# Altium integrated library NSC Audio.IntLib: 304 symbols (part 2 of 8)
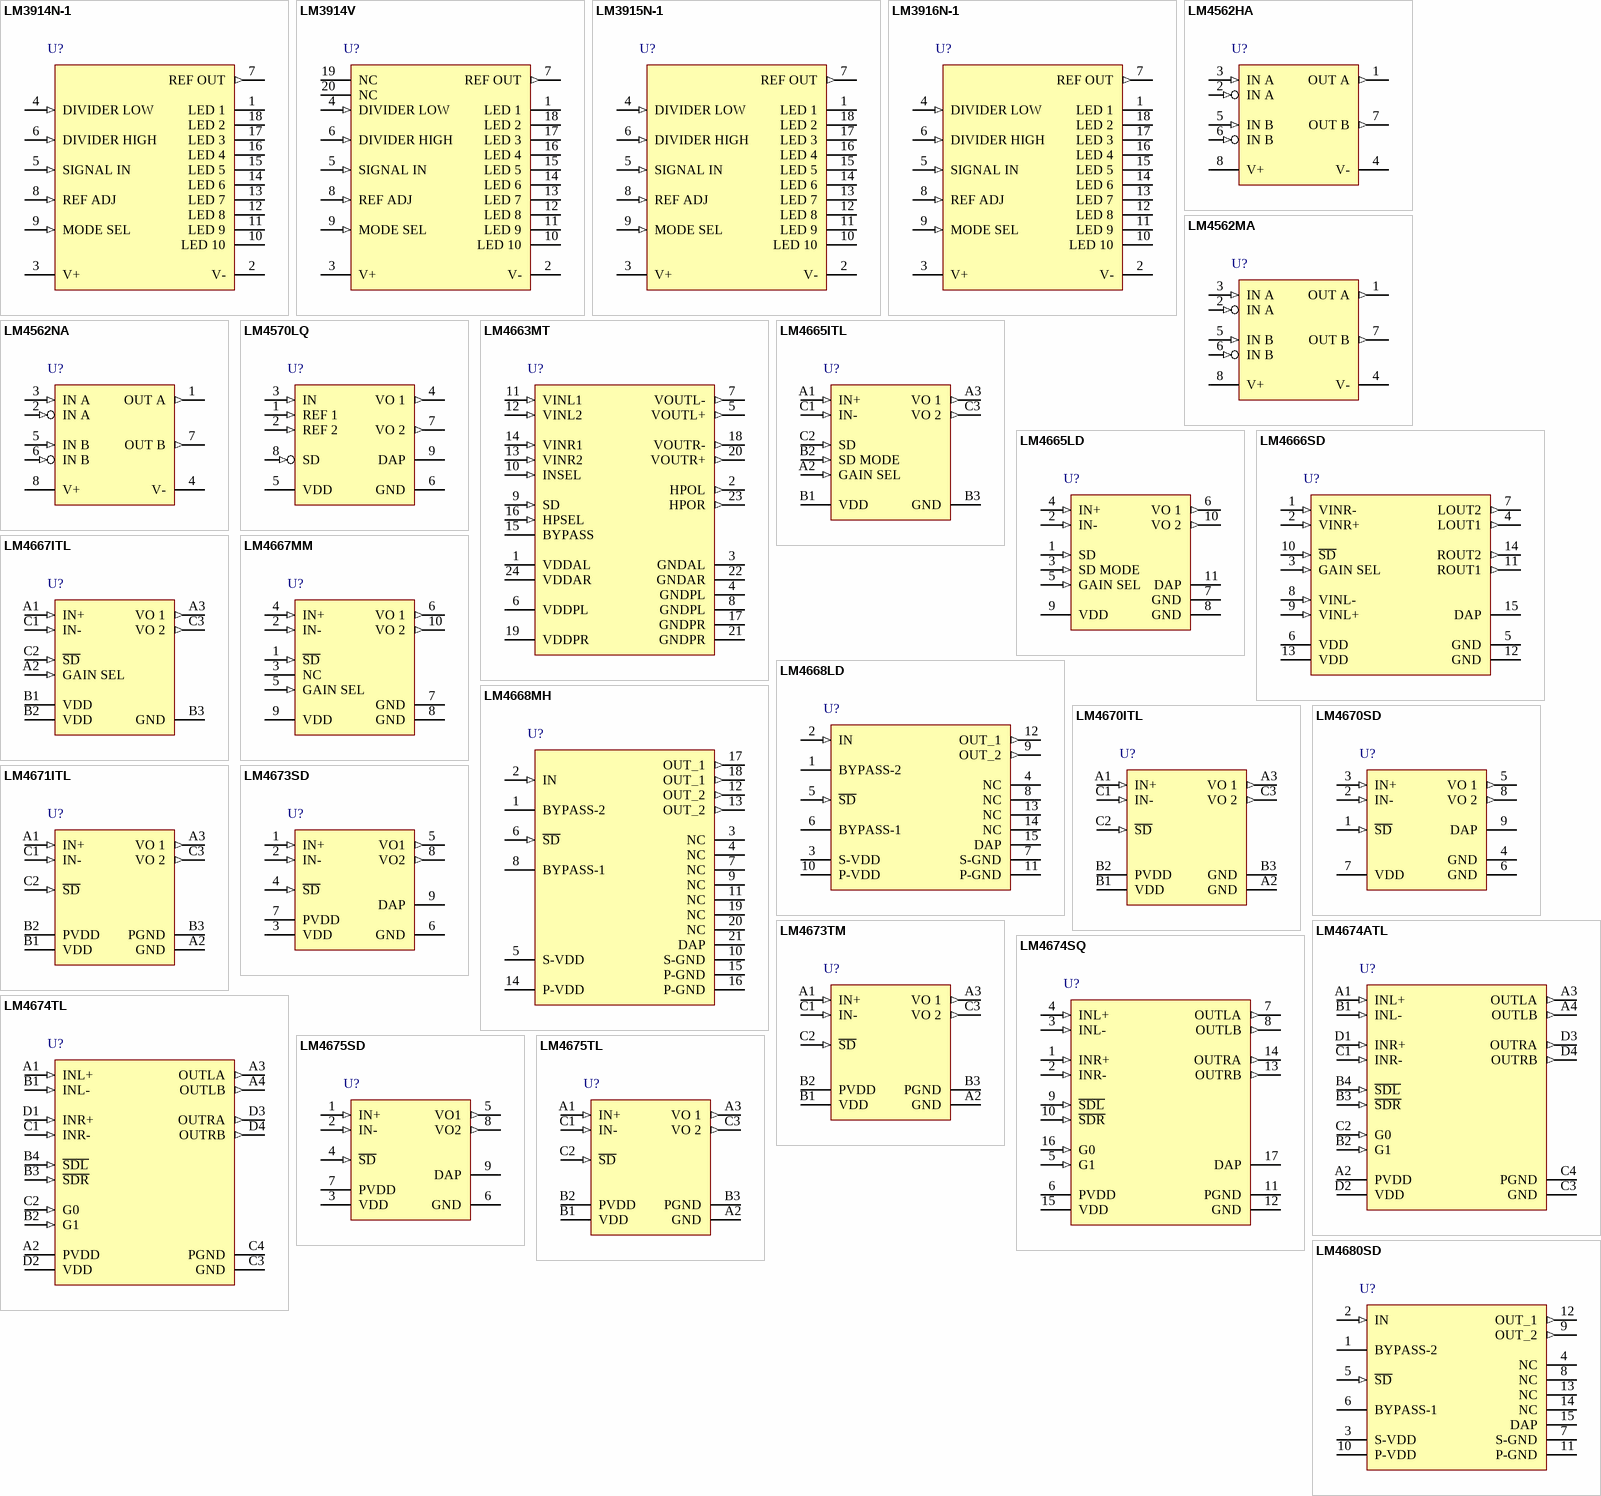
[diagram p13: symbols LM3914N-1 to LM4680SD]

## LM4667ITL
designator U?
Filterless High Efficiency 1.3W Switching Audio Amplifier; PartNumber: LM4667ITL; Manufacturer: National Semiconductor; CompType: Audio IC; PackageTopMarking: XVG*I B4; PowerWise: N; Published: 4-Dec-2008; DatasheetVersion: Sep-2004; PackageVersion: revC, Jan-2004; PackageReference: TLA09AAA; Publisher: Altium Limited; PackageDescription: Thin Micro SMD, 9 Bump (Large), 0.5mm Pitch; RoHS: O; PinCount: 9; DigiKeyPartNumber: LM4667ITLCT-ND; Code_JEDEC: MO-211-DD; ComponentLink1Description: LM4667 Datasheet; ComponentLink1URL: http://www.national.com/ds/LM/LM4667.pdf; ComponentLink2Description: LM4667 Web Page; ComponentLink2URL: http://www.national.com/pf/LM/LM4667.html; ComponentLink3Description: TLA09AAA Package Page; ComponentLink3URL: http://www.national.com/packaging/folders/tla09aaa.html
footprint TLA09AAA (Micro SMD, 9-Leads, Body 1.52x1.52mm, Pitch 0.5mm, NSC Recommended)
pins: A1 IN+ (in), A2 GAIN SEL (in), A3 VO 1 (out), B1 VDD (power), B2 VDD (power), B3 GND (power), C1 IN- (in), C2 ~{SD} (in), C3 VO 2 (out)

## LM4667MM
designator U?
Filterless High Efficiency 1.3W Switching Audio Amplifier; PartNumber: LM4667MM; Manufacturer: National Semiconductor; CompType: Audio IC; PackageTopMarking: ZXTT*GA6; PowerWise: N; Published: 4-Dec-2008; DatasheetVersion: Sep-2004; PackageVersion: revB, Jul-2003; PackageReference: MUB10A; Publisher: Altium Limited; PackageDescription: Mini-SO, Molded, .118 x .118 x .034in Body, 10 Lead, .0197in Pitch; RoHS: O; PinCount: 10; DigiKeyPartNumber: LM4667MMCT-ND; Code_JEDEC: MO-187-BA; ComponentLink1Description: LM4667 Datasheet; ComponentLink1URL: http://www.national.com/ds/LM/LM4667.pdf; ComponentLink2Description: LM4667 Web Page; ComponentLink2URL: http://www.national.com/pf/LM/LM4667.html; ComponentLink3Description: MUB10A Package Page; ComponentLink3URL: http://www.national.com/packaging/folders/mub10a.html
footprint MUB10A_N (TSSOP, 10-Leads, Body 3x3mm, Pitch 0.5mm, IPC Medium Density)
footprint MUB10A_L (TSSOP, 10-Leads, Body 3x3mm, Pitch 0.5mm, IPC High Density)
footprint MUB10A_M (TSSOP, 10-Leads, Body 3x3mm, Pitch 0.5mm, IPC Low Density)
pins: 1 ~{SD} (in), 2 IN- (in), 3 NC, 4 IN+ (in), 5 GAIN SEL (in), 6 VO 1 (out), 7 GND (power), 8 GND (power), 9 VDD (power), 10 VO 2 (out)

## LM4668LD
designator U?
10W High-Efficiency Mono BTL Audio Power Amplifier; PartNumber: LM4668LD; Manufacturer: National Semiconductor; CompType: Audio IC; PackageTopMarking: NS*UZXYTT*L4668LD; PowerWise: N; Published: 4-Dec-2008; DatasheetVersion: Oct-2004; PackageVersion: revA, Dec-2000; PackageReference: LDC14A; Publisher: Altium Limited; PackageDescription: Power LLP, Plastic, Dual, 6 x 5 x 1.0mm Body, 14 Lead, 0.8mm Pitch; RoHS: Y; PinCount: 14; DigiKeyPartNumber: LM4668LDCT-ND; ComponentLink1Description: LM4668 Datasheet; ComponentLink1URL: http://www.national.com/ds/LM/LM4668.pdf; ComponentLink2Description: LM4668 Web Page; ComponentLink2URL: http://www.national.com/pf/LM/LM4668.html; ComponentLink3Description: LDC14A Package Page; ComponentLink3URL: http://www.national.com/packaging/folders/ldc14a.html
footprint LDC14A (PSON, 14-Leads, Body 6x5mm, Pitch 0.8mm, NSC Recommended)
pins: 1 BYPASS-2, 2 IN (in), 3 S-VDD (power), 4 NC, 5 ~{SD} (in), 6 BYPASS-1, 7 S-GND (power), 8 NC, 9 OUT_2 (out), 10 P-VDD (power), 11 P-GND (power), 12 OUT_1 (out), 13 NC, 14 NC, 15 DAP (power)

## LM4668MH
designator U?
10W High-Efficiency Mono BTL Audio Power Amplifier; PartNumber: LM4668MH; Manufacturer: National Semiconductor; CompType: Audio IC; PackageTopMarking: NSUZXYTT*LM4668*MH; PowerWise: N; Published: 4-Dec-2008; DatasheetVersion: Oct-2004; PackageVersion: revC, Jul-2006; PackageReference: MXA20A; Publisher: Altium Limited; PackageDescription: Molded TSSOP, Jedec, 6.5 x 4.4 x 0.9mm Body, 20 Lead, 0.65mm Pitch, Exposed Pad; RoHS: Y; PinCount: 20; DigiKeyPartNumber: LM4668MH-ND; Code_JEDEC: MO-153-ACT; ComponentLink1Description: LM4668 Datasheet; ComponentLink1URL: http://www.national.com/ds/LM/LM4668.pdf; ComponentLink2Description: LM4668 Web Page; ComponentLink2URL: http://www.national.com/pf/LM/LM4668.html; ComponentLink3Description: MXA20A Package Page; ComponentLink3URL: http://www.national.com/packaging/folders/mxa20a.html
footprint MXA20A_N (TSOP, 20-Leads, Body 6.5x4.4mm, Pitch 0.65mm, Exposed Pad, IPC Medium Density)
footprint MXA20A_L (TSOP, 20-Leads, Body 6.5x4.4mm, Pitch 0.65mm, Exposed Pad, IPC High Density)
footprint MXA20A_M (TSOP, 20-Leads, Body 6.5x4.4mm, Pitch 0.65mm, Exposed Pad, IPC Low Density)
pins: 1 BYPASS-2, 2 IN (in), 3 NC, 4 NC, 5 S-VDD (power), 6 ~{SD} (in), 7 NC, 8 BYPASS-1, 9 NC, 10 S-GND (power), 11 NC, 12 OUT_2 (out), 13 OUT_2 (out), 14 P-VDD (power), 15 P-GND (power), 16 P-GND (power), 17 OUT_1 (out), 18 OUT_1 (out), 19 NC, 20 NC, 21 DAP (power)

## LM4670ITL
designator U?
Filterless High Efficiency 3W Switching Audio Amplifier; PartNumber: LM4670ITL; Manufacturer: National Semiconductor; CompType: Audio IC; PackageTopMarking: XVG*I E6; PowerWise: N; Published: 4-Dec-2008; DatasheetVersion: Jul-2006; PackageVersion: revC, Jan-2004; PackageReference: TLA09ZZA; Publisher: Altium Limited; PackageDescription: Thin Micro SMD, 9 Bump (Large), 0.5mm Pitch; RoHS: Y; PinCount: 9; DigiKeyPartNumber: LM4670ITL-ND; Code_JEDEC: MO-211-DD; ComponentLink1Description: LM4670 Datasheet; ComponentLink1URL: http://www.national.com/ds/LM/LM4670.pdf; ComponentLink2Description: LM4670 Web Page; ComponentLink2URL: http://www.national.com/pf/LM/LM4670.html; ComponentLink3Description: TLA09ZZA Package Page; ComponentLink3URL: http://www.national.com/packaging/folders/tla09zza.html
footprint TLA09ZZA (Micro SMD, 9-Leads, Body 1.47x1.47mm, Pitch 0.5mm, NSC Recommended)
pins: A1 IN+ (in), A2 GND (power), A3 VO 1 (out), B1 VDD (power), B2 PVDD (power), B3 GND (power), C1 IN- (in), C2 ~{SD} (in), C3 VO 2 (out)

## LM4670SD
designator U?
Filterless High Efficiency 3W Switching Audio Amplifier; PartNumber: LM4670SD; Manufacturer: National Semiconductor; CompType: Audio IC; PackageTopMarking: ZXYTT*L4670; PowerWise: N; Published: 4-Dec-2008; DatasheetVersion: Jul-2006; PackageVersion: revA, Aug-2003; PackageReference: SDA08A; Publisher: Altium Limited; PackageDescription: LLP, Plastic, Dual, 3 x 3 x 0.8mm Body, 8 Lead, 0.5mm Pitch, No Pullback; RoHS: Y; PinCount: 8; DigiKeyPartNumber: LM4670SD-ND; ComponentLink1Description: LM4670 Datasheet; ComponentLink1URL: http://www.national.com/ds/LM/LM4670.pdf; ComponentLink2Description: LM4670 Web Page; ComponentLink2URL: http://www.national.com/pf/LM/LM4670.html; ComponentLink3Description: SDA08A Package Page; ComponentLink3URL: http://www.national.com/packaging/folders/sda08a.html
footprint SDA08A (SON, 8-Leads, Body 3x3mm, Pitch 0.5mm, NSC Recommended)
pins: 1 ~{SD} (in), 2 IN- (in), 3 IN+ (in), 4 GND (power), 5 VO 1 (out), 6 GND (power), 7 VDD (power), 8 VO 2 (out), 9 DAP (power)

## LM4671ITL
designator U?
Filterless High Efficiency 2.5W Switching Audio Amplifier; PartNumber: LM4671ITL; Manufacturer: National Semiconductor; CompType: Audio IC; PackageTopMarking: XVG*I E7; PowerWise: N; Published: 4-Dec-2008; DatasheetVersion: Mar-2008; PackageVersion: revC, Jan-2004; PackageReference: TLA09AAA; Publisher: Altium Limited; PackageDescription: Thin Micro SMD, 9 Bump (Large), 0.5mm Pitch; RoHS: Y; PinCount: 9; DigiKeyPartNumber: LM4671ITL-ND; Code_JEDEC: MO-211-DD; ComponentLink1Description: LM4671 Datasheet; ComponentLink1URL: http://www.national.com/ds/LM/LM4671.pdf; ComponentLink2Description: LM4671 Web Page; ComponentLink2URL: http://www.national.com/pf/LM/LM4671.html; ComponentLink3Description: TLA09AAA Package Page; ComponentLink3URL: http://www.national.com/packaging/folders/tla09aaa.html
footprint TLA09AAA (Micro SMD, 9-Leads, Body 1.52x1.52mm, Pitch 0.5mm, NSC Recommended)
pins: A1 IN+ (in), A2 GND (power), A3 VO 1 (out), B1 VDD (power), B2 PVDD (power), B3 PGND (power), C1 IN- (in), C2 ~{SD} (in), C3 VO 2 (out)

## LM4673SD
designator U?
Filterless, 2.65W, Mono, Class D Audio Power Amplifier; PartNumber: LM4673SD; Manufacturer: National Semiconductor; CompType: Audio IC; PackageTopMarking: ZXYTT*L4673; PowerWise: Y; Published: 4-Dec-2008; DatasheetVersion: Nov-2007; PackageVersion: revA, Aug-2003; PackageReference: SDA08A; Publisher: Altium Limited; PackageDescription: LLP, Plastic, Dual, 3 x 3 x 0.8mm Body, 8 Lead, 0.5mm Pitch, No Pullback; RoHS: Y; PinCount: 8; DigiKeyPartNumber: LM4673SDCT-ND; ComponentLink1Description: LM4673 Datasheet; ComponentLink1URL: http://www.national.com/ds/LM/LM4673.pdf; ComponentLink2Description: LM4673 Web Page; ComponentLink2URL: http://www.national.com/pf/LM/LM4673.html; ComponentLink3Description: SDA08A Package Page; ComponentLink3URL: http://www.national.com/packaging/folders/sda08a.html
footprint SDA08A (SON, 8-Leads, Body 3x3mm, Pitch 0.5mm, NSC Recommended)
pins: 1 IN+ (in), 2 IN- (in), 3 VDD (power), 4 ~{SD} (in), 5 VO1 (out), 6 GND (power), 7 PVDD (power), 8 VO2 (out), 9 DAP (power)

## LM4673TM
designator U?
Filterless, 2.65W, Mono, Class D Audio Power Amplifier; PartNumber: LM4673TM; Manufacturer: National Semiconductor; CompType: Audio IC; PackageTopMarking: XVG*I G4; PowerWise: Y; Published: 4-Dec-2008; DatasheetVersion: Nov-2007; PackageVersion: revA, May-2005; PackageReference: TMD09GGA; Publisher: Altium Limited; PackageDescription: Thin Micro SMD, 9 Bump, 0.4mm Pitch; RoHS: Y; PinCount: 9; DigiKeyPartNumber: LM4673TMCT-ND; ComponentLink1Description: LM4673 Datasheet; ComponentLink1URL: http://www.national.com/ds/LM/LM4673.pdf; ComponentLink2Description: LM4673 Web Page; ComponentLink2URL: http://www.national.com/pf/LM/LM4673.html; ComponentLink3Description: TMD09GGA Package Page; ComponentLink3URL: http://www.national.com/packaging/folders/tmd09gga.html
footprint TMD09GGA (Micro SMD, 9-Leads, Body 1.37x1.37mm, Pitch 0.4mm, NSC Recommended)
pins: A1 IN+ (in), A2 GND (power), A3 VO 1 (out), B1 VDD (power), B2 PVDD (power), B3 PGND (power), C1 IN- (in), C2 ~{SD} (in), C3 VO 2 (out)

## LM4674ATL
designator U?
Filterless 2.5 Stereo Class D Audio Power Amplifier; PartNumber: LM4674ATL; Manufacturer: National Semiconductor; CompType: Audio IC; PackageTopMarking: XYTT*I GI2; PowerWise: Y; Published: 4-Dec-2008; DatasheetVersion: Sep-2006; PackageVersion: revC, Jan-2004; PackageReference: TLA1611A; Publisher: Altium Limited; PackageDescription: Thin Micro SMD, 16 Bump (Large), 0.5mm Pitch; RoHS: Y; PinCount: 16; DigiKeyPartNumber: LM4674ATLCT-ND; Code_JEDEC: MO-211-DF; ComponentLink1Description: LM4674A Datasheet; ComponentLink1URL: http://www.national.com/ds/LM/LM4674A.pdf; ComponentLink2Description: LM4674A Web Page; ComponentLink2URL: http://www.national.com/pf/LM/LM4674A.html; ComponentLink3Description: TLA1611A Package Page; ComponentLink3URL: http://www.national.com/packaging/folders/tla1611a.html
footprint TLA1611A (Micro SMD, 16-Leads, Body 1.97x1.97mm, Pitch 0.5mm, NSC Recommended)
pins: A1 INL+ (in), A2 PVDD (power), A3 OUTLA (out), A4 OUTLB (out), B1 INL- (in), B2 G1 (in), B3 ~{SDR} (in), B4 ~{SDL} (in), C1 INR- (in), C2 G0 (in), C3 GND (power), C4 PGND (power), D1 INR+ (in), D2 VDD (power), D3 OUTRA (out), D4 OUTRB (out)

## LM4674SQ
designator U?
Filterless 2.5 Stereo Class D Audio Power Amplifier; PartNumber: LM4674SQ; Manufacturer: National Semiconductor; CompType: Audio IC; PackageTopMarking: NS*UZXYTT*L4674SQ; PowerWise: N; Published: 4-Dec-2008; DatasheetVersion: Jul-2008; PackageVersion: revA, Oct-2003; PackageReference: SQA16A; Publisher: Altium Limited; PackageDescription: LLP, Plastic, Quad, 4 x 4 x 0.8mm Body, 16 Lead, 0.5mm Pitch, No Pullback; RoHS: Y; PinCount: 16; DigiKeyPartNumber: LM4674SQCT-ND; ComponentLink1Description: LM4674 Datasheet; ComponentLink1URL: http://www.national.com/ds/LM/LM4674.pdf; ComponentLink2Description: LM4674 Web Page; ComponentLink2URL: http://www.national.com/pf/LM/LM4674.html; ComponentLink3Description: SQA16A Package Page; ComponentLink3URL: http://www.national.com/packaging/folders/sqa16a.html
footprint SQA16A (QFN, 16-Leads, Body 4x4mm, Pitch 0.5mm, NSC Recommended)
pins: 1 INR+ (in), 2 INR- (in), 3 INL- (in), 4 INL+ (in), 5 G1 (in), 6 PVDD (power), 7 OUTLA (out), 8 OUTLB (out), 9 ~{SDL} (in), 10 ~{SDR} (in), 11 PGND (power), 12 GND (power), 13 OUTRB (out), 14 OUTRA (out), 15 VDD (power), 16 G0 (in), 17 DAP (power)

## LM4674TL
designator U?
Filterless 2.5 Stereo Class D Audio Power Amplifier; PartNumber: LM4674TL; Manufacturer: National Semiconductor; CompType: Audio IC; PackageTopMarking: XYTT*I GG2; PowerWise: N; Published: 4-Dec-2008; DatasheetVersion: Jul-2008; PackageVersion: revC, Jan-2004; PackageReference: TLA1611A; Publisher: Altium Limited; PackageDescription: Thin Micro SMD, 16 Bump (Large), 0.5mm Pitch; RoHS: Y; PinCount: 16; DigiKeyPartNumber: LM4674TLCT-ND; Code_JEDEC: MO-211-DF; ComponentLink1Description: LM4674 Datasheet; ComponentLink1URL: http://www.national.com/ds/LM/LM4674.pdf; ComponentLink2Description: LM4674 Web Page; ComponentLink2URL: http://www.national.com/pf/LM/LM4674.html; ComponentLink3Description: TLA1611A Package Page; ComponentLink3URL: http://www.national.com/packaging/folders/tla1611a.html
footprint TLA1611A (Micro SMD, 16-Leads, Body 1.97x1.97mm, Pitch 0.5mm, NSC Recommended)
pins: A1 INL+ (in), A2 PVDD (power), A3 OUTLA (out), A4 OUTLB (out), B1 INL- (in), B2 G1 (in), B3 ~{SDR} (in), B4 ~{SDL} (in), C1 INR- (in), C2 G0 (in), C3 GND (power), C4 PGND (power), D1 INR+ (in), D2 VDD (power), D3 OUTRA (out), D4 OUTRB (out)

## LM4675SD
designator U?
Ultra-Low EMI, Filterless, 2.65W, Mono, Class D Audio Power Amplifier with Spread Spectrum; PartNumber: LM4675SD; Manufacturer: National Semiconductor; CompType: Audio IC; PackageTopMarking: ZXYTT*L4675; PowerWise: N; Published: 4-Dec-2008; DatasheetVersion: Jul-2008; PackageVersion: revA, Aug-2003; PackageReference: SDA08A; Publisher: Altium Limited; PackageDescription: LLP, Plastic, Dual, 3 x 3 x 0.8mm Body, 8 Lead, 0.5mm Pitch, No Pullback; RoHS: Y; PinCount: 8; DigiKeyPartNumber: LM4675SDCT-ND; ComponentLink1Description: LM4675 Datasheet; ComponentLink1URL: http://www.national.com/ds/LM/LM4675.pdf; ComponentLink2Description: LM4675 Web Page; ComponentLink2URL: http://www.national.com/pf/LM/LM4675.html; ComponentLink3Description: SDA08A Package Page; ComponentLink3URL: http://www.national.com/packaging/folders/sda08a.html
footprint SDA08A (SON, 8-Leads, Body 3x3mm, Pitch 0.5mm, NSC Recommended)
pins: 1 IN+ (in), 2 IN- (in), 3 VDD (power), 4 ~{SD} (in), 5 VO1 (out), 6 GND (power), 7 PVDD (power), 8 VO2 (out), 9 DAP (power)

## LM4675TL
designator U?
Ultra-Low EMI, Filterless, 2.65W, Mono, Class D Audio Power Amplifier with Spread Spectrum; PartNumber: LM4675TL; Manufacturer: National Semiconductor; CompType: Audio IC; PackageTopMarking: XVG*I H8; PowerWise: Y; Published: 4-Dec-2008; DatasheetVersion: Jul-2008; PackageVersion: revC, Jan-2004; PackageReference: TLA09AAA; Publisher: Altium Limited; PackageDescription: Thin Micro SMD, 9 Bump (Large), 0.5mm Pitch; RoHS: Y; PinCount: 9; DigiKeyPartNumber: LM4675TLCT-ND; Code_JEDEC: MO-211-DD; ComponentLink1Description: LM4675 Datasheet; ComponentLink1URL: http://www.national.com/ds/LM/LM4675.pdf; ComponentLink2Description: LM4675 Web Page; ComponentLink2URL: http://www.national.com/pf/LM/LM4675.html; ComponentLink3Description: TLA09AAA Package Page; ComponentLink3URL: http://www.national.com/packaging/folders/tla09aaa.html
footprint TLA09AAA (Micro SMD, 9-Leads, Body 1.52x1.52mm, Pitch 0.5mm, NSC Recommended)
pins: A1 IN+ (in), A2 GND (power), A3 VO 1 (out), B1 VDD (power), B2 PVDD (power), B3 PGND (power), C1 IN- (in), C2 ~{SD} (in), C3 VO 2 (out)

## LM4680SD
designator U?
10W High-Efficiency Mono BTL Audio Power Amplifier; PartNumber: LM4680SD; Manufacturer: National Semiconductor; CompType: Audio IC; PackageTopMarking: NS*UZXYTT*L4680SD; PowerWise: N; Published: 4-Dec-2008; DatasheetVersion: Jan-2005; PackageVersion: revA, Jul-2003; PackageReference: SRC14A; Publisher: Altium Limited; PackageDescription: LLP, Plastic, Dual, 6 x 5 x 1mm Body, 14 Lead, 0.8mm Pitch, No Pullback; RoHS: Y; PinCount: 14; DigiKeyPartNumber: LM4680SDCT-ND; ComponentLink1Description: LM4680 Datasheet; ComponentLink1URL: http://www.national.com/ds/LM/LM4680.pdf; ComponentLink2Description: LM4680 Web Page; ComponentLink2URL: http://www.national.com/pf/LM/LM4680.html; ComponentLink3Description: SRC14A Package Page; ComponentLink3URL: http://www.national.com/packaging/folders/src14a.html
footprint SRC14A (SON, 14-Leads, Body 6x5 mm, Pitch 0.8mm, NSC Recommended)
pins: 1 BYPASS-2, 2 IN (in), 3 S-VDD (power), 4 NC, 5 ~{SD} (in), 6 BYPASS-1, 7 S-GND (power), 8 NC, 9 OUT_2 (out), 10 P-VDD (power), 11 P-GND (power), 12 OUT_1 (out), 13 NC, 14 NC, 15 DAP (power)

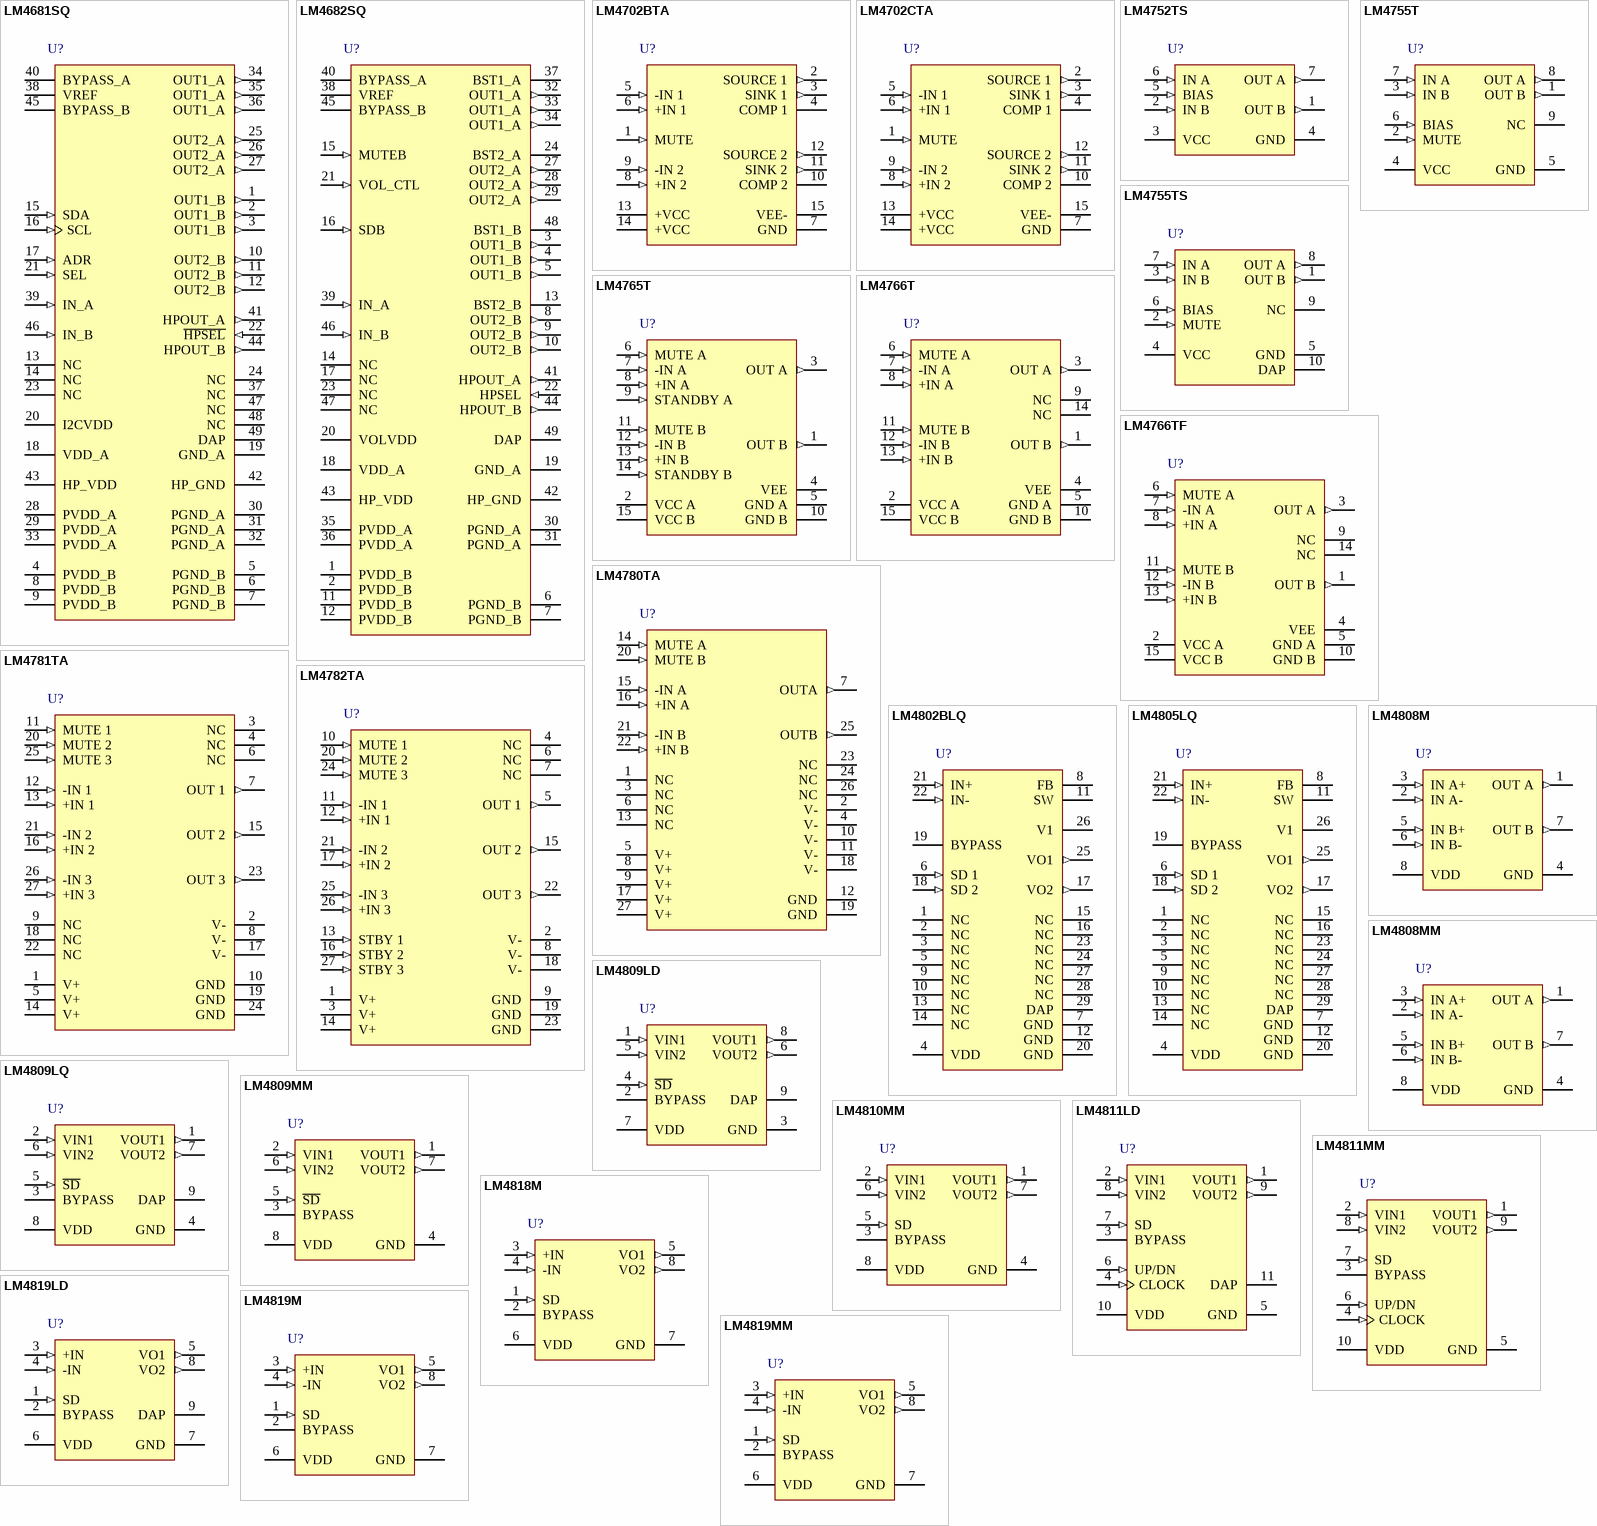
[diagram p2: symbols LM4681SQ to LM4819MM]

## LM4681SQ
designator U?
10 Watt Stereo CLASS D Audio Power Amplifier with Stereo Headphone Amplifier and I2C/SPI Volume Control; PartNumber: LM4681SQ; Manufacturer: National Semiconductor; CompType: Audio IC; PackageTopMarking: NS*UZXYTT*L4681SQ; PowerWise: N; Published: 4-Dec-2008; DatasheetVersion: Mar-2006; PackageVersion: revA, May-2003; PackageReference: SQA48A; Publisher: Altium Limited; PackageDescription: LLP, Plastic, Quad, 7 x 7 x 0.8mm Body, 48 Lead, 0.5mm Pitch, No Pullback; RoHS: Y; PinCount: 48; DigiKeyPartNumber: LM4681SQCT-ND; Code_JEDEC: MO-220-WKKD-2; ComponentLink1Description: LM4681 Datasheet; ComponentLink1URL: http://www.national.com/ds/LM/LM4681.pdf; ComponentLink2Description: LM4681 Web Page; ComponentLink2URL: http://www.national.com/pf/LM/LM4681.html; ComponentLink3Description: SQA48A Package Page; ComponentLink3URL: http://www.national.com/packaging/folders/sqa48a.html
footprint SQA48A (QFN, 48-Leads, Body 7x7mm, Pitch 0.5mm, NSC Recommended)
pins: 1 OUT1_B (out), 2 OUT1_B (out), 3 OUT1_B (out), 4 PVDD_B (power), 5 PGND_B (power), 6 PGND_B (power), 7 PGND_B (power), 8 PVDD_B (power), 9 PVDD_B (power), 10 OUT2_B (out), 11 OUT2_B (out), 12 OUT2_B (out), 13 NC, 14 NC, 15 SDA (in), 16 SCL (in), 17 ADR (in), 18 VDD_A (power), 19 GND_A (power), 20 I2CVDD (power), 21 SEL (in), 22 ~{HPSEL} (in), 23 NC, 24 NC, 25 OUT2_A (out), 26 OUT2_A (out), 27 OUT2_A (out), 28 PVDD_A (power), 29 PVDD_A (power), 30 PGND_A (power), 31 PGND_A (power), 32 PGND_A (power), 33 PVDD_A (power), 34 OUT1_A (out), 35 OUT1_A (out), 36 OUT1_A (out), 37 NC, 38 VREF, 39 IN_A (in), 40 BYPASS_A, 41 HPOUT_A (out), 42 HP_GND (power), 43 HP_VDD (power), 44 HPOUT_B (out), 45 BYPASS_B, 46 IN_B (in), 47 NC, 48 NC, 49 DAP (power)

## LM4682SQ
designator U?
10 Watt Stereo CLASS D Audio Power Amplifier with Stereo Headphone Amplifier and DC Volume Control; PartNumber: LM4682SQ; Manufacturer: National Semiconductor; CompType: Audio IC; PackageTopMarking: NS*UZXYTT*L4682SQ; PowerWise: N; Published: 4-Dec-2008; DatasheetVersion: Apr-2008; PackageVersion: revA, May-2003; PackageReference: SQA48A; Publisher: Altium Limited; PackageDescription: LLP, Plastic, Quad, 7 x 7 x 0.8mm Body, 48 Lead, 0.5mm Pitch, No Pullback; RoHS: Y; PinCount: 48; DigiKeyPartNumber: LM4682SQCT-ND; Code_JEDEC: MO-220-WKKD-2; ComponentLink1Description: LM4682 Datasheet; ComponentLink1URL: http://www.national.com/ds/LM/LM4682.pdf; ComponentLink2Description: LM4682 Web Page; ComponentLink2URL: http://www.national.com/pf/LM/LM4682.html; ComponentLink3Description: SQA48A Package Page; ComponentLink3URL: http://www.national.com/packaging/folders/sqa48a.html
footprint SQA48A (QFN, 48-Leads, Body 7x7mm, Pitch 0.5mm, NSC Recommended)
pins: 1 PVDD_B (power), 2 PVDD_B (power), 3 OUT1_B (out), 4 OUT1_B (out), 5 OUT1_B (out), 6 PGND_B (power), 7 PGND_B (power), 8 OUT2_B (out), 9 OUT2_B (out), 10 OUT2_B (out), 11 PVDD_B (power), 12 PVDD_B (power), 13 BST2_B, 14 NC, 15 MUTEB (in), 16 SDB (in), 17 NC, 18 VDD_A (power), 19 GND_A (power), 20 VOLVDD (power), 21 VOL_CTL (in), 22 HPSEL (in), 23 NC, 24 BST2_A, 27 OUT2_A (out), 28 OUT2_A (out), 29 OUT2_A (out), 30 PGND_A (power), 31 PGND_A (power), 32 OUT1_A (out), 33 OUT1_A (out), 34 OUT1_A (out), 35 PVDD_A (power), 36 PVDD_A (power), 37 BST1_A, 38 VREF, 39 IN_A (in), 40 BYPASS_A, 41 HPOUT_A (out), 42 HP_GND (power), 43 HP_VDD (power), 44 HPOUT_B (out), 45 BYPASS_B, 46 IN_B (in), 47 NC, 48 BST1_B, 49 DAP (power)

## LM4702BTA
designator U?
Stereo High Fidelity 200 Volt Driver with Mute; PartNumber: LM4702BTA; Manufacturer: National Semiconductor; CompType: Audio IC; PackageTopMarking: NSUZXYTTE#*LM4702BTA; PowerWise: N; Published: 4-Dec-2008; DatasheetVersion: Sep-2006; PackageVersion: revA, Nov-1985; PackageReference: TA15A; Publisher: Altium Limited; PackageDescription: TO-220, Molded, .788 x .421in Body, 15 Lead, .05in Pitch; RoHS: Y; PinCount: 15; DigiKeyPartNumber: LM4702BTA-ND; ComponentLink1Description: LM4702 Datasheet; ComponentLink1URL: http://www.national.com/ds/LM/LM4702.pdf; ComponentLink2Description: LM4702 Web Page; ComponentLink2URL: http://www.national.com/pf/LM/LM4702.html; ComponentLink3Description: TA15A Package Page; ComponentLink3URL: http://www.national.com/packaging/folders/ta15a.html
footprint TA15A (TO, Thru-Hole, Vertical, Heatsink Mounted; 15 Bent Staggered Leads; Pitch 1.27 mm)
pins: 1 MUTE (in), 2 SOURCE 1 (out), 3 SINK 1 (out), 4 COMP 1, 5 -IN 1 (in), 6 +IN 1 (in), 7 GND (power), 8 +IN 2 (in), 9 -IN 2 (in), 10 COMP 2, 11 SINK 2 (out), 12 SOURCE 2 (out), 13 +VCC (power), 14 +VCC (power), 15 VEE- (power)

## LM4702CTA
designator U?
Stereo High Fidelity 200 Volt Driver with Mute; PartNumber: LM4702CTA; Manufacturer: National Semiconductor; CompType: Audio IC; PackageTopMarking: NSUZXYTTE#*LM4702CTA; PowerWise: N; Published: 4-Dec-2008; DatasheetVersion: Sep-2006; PackageVersion: revA, Nov-1985; PackageReference: TA15A; Publisher: Altium Limited; PackageDescription: TO-220, Molded, .788 x .421in Body, 15 Lead, .05in Pitch; RoHS: Y; PinCount: 15; DigiKeyPartNumber: LM4702CTA-ND; ComponentLink1Description: LM4702 Datasheet; ComponentLink1URL: http://www.national.com/ds/LM/LM4702.pdf; ComponentLink2Description: LM4702 Web Page; ComponentLink2URL: http://www.national.com/pf/LM/LM4702.html; ComponentLink3Description: TA15A Package Page; ComponentLink3URL: http://www.national.com/packaging/folders/ta15a.html
footprint TA15A (TO, Thru-Hole, Vertical, Heatsink Mounted; 15 Bent Staggered Leads; Pitch 1.27 mm)
pins: 1 MUTE (in), 2 SOURCE 1 (out), 3 SINK 1 (out), 4 COMP 1, 5 -IN 1 (in), 6 +IN 1 (in), 7 GND (power), 8 +IN 2 (in), 9 -IN 2 (in), 10 COMP 2, 11 SINK 2 (out), 12 SOURCE 2 (out), 13 +VCC (power), 14 +VCC (power), 15 VEE- (power)

## LM4752TS
designator U?
Stereo 11W Audio Power Amplifier; PartNumber: LM4752TS; Manufacturer: National Semiconductor; CompType: Audio IC; PackageTopMarking: NSUZXYTTE#*LM4752TS; PowerWise: N; Published: 4-Dec-2008; DatasheetVersion: May-2008; PackageVersion: revE, Jul-2003; PackageReference: TS7B; Publisher: Altium Limited; PackageDescription: TO-263, Molded, .400 x .390 x .180in Body, 7 Lead, .050in Pitch, Surface Mount; RoHS: O; PinCount: 7; DigiKeyPartNumber: LM4752TS-ND; Code_JEDEC: MO-169-AC; ComponentLink1Description: LM4752 Datasheet; ComponentLink1URL: http://www.national.com/ds/LM/LM4752.pdf; ComponentLink2Description: LM4752 Web Page; ComponentLink2URL: http://www.national.com/pf/LM/LM4752.html; ComponentLink3Description: TS7B Package Page; ComponentLink3URL: http://www.national.com/packaging/folders/ts7b.html
footprint TS7B_N (D2-PAK, 8-Leads, Body 8.6x10.2mm, Pitch 1.27mm, Lead Span 14.1mm, IPC Medium Density)
footprint TS7B_L (D2-PAK, 8-Leads, Body 8.6x10.2mm, Pitch 1.27mm, Lead Span 14.1mm, IPC High Density)
footprint TS7B_M (D2-PAK, 8-Leads, Body 8.6x10.2mm, Pitch 1.27mm, Lead Span 14.1mm, IPC Low Density)
pins: 1 OUT B (out), 2 IN B (in), 3 VCC (power), 4 GND (power), 5 BIAS (in), 6 IN A (in), 7 OUT A (out)

## LM4755T
designator U?
Stereo 11W Audio Power Amplifier with Mute; PartNumber: LM4755T; Manufacturer: National Semiconductor; CompType: Audio IC; PackageTopMarking: NSUZXYTTE#*LM4755T; PowerWise: N; Published: 29-May-2009; DatasheetVersion: May-2008; PackageVersion: revC, Jul-1999; PackageReference: TA09A; Publisher: Altium Limited; PackageDescription: TO-220, Molded, 9 Lead, Staggered; RoHS: Y; PinCount: 9; DigiKeyPartNumber: LM4755T-ND; ComponentLink1Description: LM4755 Datasheet; ComponentLink1URL: http://www.national.com/ds/LM/LM4755.pdf; ComponentLink2Description: LM4755 Web Page; ComponentLink2URL: http://www.national.com/pf/LM/LM4755.html; ComponentLink3Description: TA09A Package Page; ComponentLink3URL: http://www.national.com/packaging/folders/ta09a.html
footprint TA09A (TO, Thru-Hole, Vertical, Heatsink Mounted; 9 Bent Staggered Leads; Pitch 0.97 mm)
pins: 1 OUT B (out), 2 MUTE (in), 3 IN B (in), 4 VCC (power), 5 GND (power), 6 BIAS (in), 7 IN A (in), 8 OUT A (out), 9 NC

## LM4755TS
designator U?
Stereo 11W Audio Power Amplifier with Mute; PartNumber: LM4755TS; Manufacturer: National Semiconductor; CompType: Audio IC; PackageTopMarking: NSUZXYTTE#*LM4755TS; PowerWise: N; Published: 4-Dec-2008; DatasheetVersion: May-2008; PackageVersion: revB, Dec-2004; PackageReference: TS9A; Publisher: Altium Limited; PackageDescription: TO-263, Molded, 9 Lead, Surface Mount; RoHS: O; PinCount: 9; DigiKeyPartNumber: LM4755TS-ND; ComponentLink1Description: LM4755 Datasheet; ComponentLink1URL: http://www.national.com/ds/LM/LM4755.pdf; ComponentLink2Description: LM4755 Web Page; ComponentLink2URL: http://www.national.com/pf/LM/LM4755.html; ComponentLink3Description: TS9A Package Page; ComponentLink3URL: http://www.national.com/packaging/folders/ts9a.html
footprint TS9A_N (D2-PAK, 10-Leads, Body 8.7x10.2mm, Pitch 0.97mm, Lead Span 14.1mm, IPC Medium Density)
footprint TS9A_L (D2-PAK, 10-Leads, Body 8.7x10.2mm, Pitch 0.97mm, Lead Span 14.1mm, IPC High Density)
footprint TS9A_M (D2-PAK, 10-Leads, Body 8.7x10.2mm, Pitch 0.97mm, Lead Span 14.1mm, IPC Low Density)
pins: 1 OUT B (out), 2 MUTE (in), 3 IN B (in), 4 VCC (power), 5 GND (power), 6 BIAS (in), 7 IN A (in), 8 OUT A (out), 9 NC, 10 DAP (power)

## LM4765T
designator U?
Overture Audio Power Amplifier Series Dual 30-Watt Audio Power Amplifier with Mute and Standby Modes; PartNumber: LM4765T; Manufacturer: National Semiconductor; CompType: Audio IC; PackageTopMarking: NSUZXYTTE#*LM4765T; PowerWise: N; Published: 4-Dec-2008; DatasheetVersion: Aug-2000; PackageVersion: revA, Nov-1985; PackageReference: TA15A; Publisher: Altium Limited; PackageDescription: TO-220, Molded, .788 x .421in Body, 15 Lead, .05in Pitch; RoHS: O; PinCount: 15; DigiKeyPartNumber: LM4765T-ND; ComponentLink1Description: LM4765 Datasheet; ComponentLink1URL: http://www.national.com/ds/LM/LM4765.pdf; ComponentLink2Description: LM4765 Web Page; ComponentLink2URL: http://www.national.com/pf/LM/LM4765.html; ComponentLink3Description: TA15A Package Page; ComponentLink3URL: http://www.national.com/packaging/folders/ta15a.html
footprint TA15A (TO, Thru-Hole, Vertical, Heatsink Mounted; 15 Bent Staggered Leads; Pitch 1.27 mm)
pins: 1 OUT B (out), 2 VCC A (power), 3 OUT A (out), 4 VEE (power), 5 GND A (power), 6 MUTE A (in), 7 -IN A (in), 8 +IN A (in), 9 STANDBY A (in), 10 GND B (power), 11 MUTE B (in), 12 -IN B (in), 13 +IN B (in), 14 STANDBY B (in), 15 VCC B (power)

## LM4766T
designator U?
Overture Audio Power Amplifier Series Dual 40-Watt Audio Power Amplifier with Mute; PartNumber: LM4766T; Manufacturer: National Semiconductor; CompType: Audio IC; PackageTopMarking: NSUZXYTTE#*LM4766T; PowerWise: N; Published: 4-Dec-2008; DatasheetVersion: Mar-2006; PackageVersion: revA, Nov-1985; PackageReference: TA15A; Publisher: Altium Limited; PackageDescription: TO-220, Molded, .788 x .421in Body, 15 Lead, .05in Pitch; RoHS: O; PinCount: 15; DigiKeyPartNumber: LM4766T-ND; ComponentLink1Description: LM4766 Datasheet; ComponentLink1URL: http://www.national.com/ds/LM/LM4766.pdf; ComponentLink2Description: LM4766 Web Page; ComponentLink2URL: http://www.national.com/pf/LM/LM4766.html; ComponentLink3Description: TA15A Package Page; ComponentLink3URL: http://www.national.com/packaging/folders/ta15a.html
footprint TA15A (TO, Thru-Hole, Vertical, Heatsink Mounted; 15 Bent Staggered Leads; Pitch 1.27 mm)
pins: 1 OUT B (out), 2 VCC A (power), 3 OUT A (out), 4 VEE (power), 5 GND A (power), 6 MUTE A (in), 7 -IN A (in), 8 +IN A (in), 9 NC, 10 GND B (power), 11 MUTE B (in), 12 -IN B (in), 13 +IN B (in), 14 NC, 15 VCC B (power)

## LM4766TF
designator U?
Overture Audio Power Amplifier Series Dual 40-Watt Audio Power Amplifier with Mute; PartNumber: LM4766TF; Manufacturer: National Semiconductor; CompType: Audio IC; PackageTopMarking: NSUZXYTTE#*LM4766TF; PowerWise: N; Published: 4-Dec-2008; DatasheetVersion: Mar-2006; PackageVersion: revB, Feb-1994; PackageReference: TF15B; Publisher: Altium Limited; PackageDescription: TO-220, Molded, 15 Lead, Staggered, Isolated; RoHS: Y; PinCount: 15; DigiKeyPartNumber: LM4766TF-ND; ComponentLink1Description: LM4766 Datasheet; ComponentLink1URL: http://www.national.com/ds/LM/LM4766.pdf; ComponentLink2Description: LM4766 Web Page; ComponentLink2URL: http://www.national.com/pf/LM/LM4766.html; ComponentLink3Description: TF15B Package Page; ComponentLink3URL: http://www.national.com/packaging/folders/tf15b.html
footprint TF15B (TO, Thru-Hole, Vertical, Heatsink Mounted; 15 Bent Staggered Leads; Pitch 1.27 mm)
pins: 1 OUT B (out), 2 VCC A (power), 3 OUT A (out), 4 VEE (power), 5 GND A (power), 6 MUTE A (in), 7 -IN A (in), 8 +IN A (in), 9 NC, 10 GND B (power), 11 MUTE B (in), 12 -IN B (in), 13 +IN B (in), 14 NC, 15 VCC B (power)

## LM4780TA
designator U?
Overture Audio Power Amplifier Series Stereo 60W, Mono 120W Audio Power Amplifier with Mute; PartNumber: LM4780TA; Manufacturer: National Semiconductor; CompType: Audio IC; PackageTopMarking: NSUZXYTTE#*L4780TA; PowerWise: N; Published: 4-Dec-2008; DatasheetVersion: Jul-2003; PackageVersion: revB, Apr-2003; PackageReference: TA27A; Publisher: Altium Limited; PackageDescription: TO-220, Molded, 1.150 x .618 x .177in Body, 27 Lead, .040in Pitch; RoHS: Y; PinCount: 27; DigiKeyPartNumber: LM4780TA-ND; ComponentLink1Description: LM4780 Datasheet; ComponentLink1URL: http://www.national.com/ds/LM/LM4780.pdf; ComponentLink2Description: LM4780 Web Page; ComponentLink2URL: http://www.national.com/pf/LM/LM4780.html; ComponentLink3Description: TA27A Package Page; ComponentLink3URL: http://www.national.com/packaging/folders/ta27a.html
footprint TA27A (In-Line; 27 Zig-Zag Leads; Body 29.2 x 4.5mm; Pitch 1mm)
pins: 1 NC, 2 V- (power), 3 NC, 4 V- (power), 5 V+ (power), 6 NC, 7 OUTA (out), 8 V+ (power), 9 V+ (power), 10 V- (power), 11 V- (power), 12 GND (power), 13 NC, 14 MUTE A (in), 15 -IN A (in), 16 +IN A (in), 17 V+ (power), 18 V- (power), 19 GND (power), 20 MUTE B (in), 21 -IN B (in), 22 +IN B (in), 23 NC, 24 NC, 25 OUTB (out), 26 NC, 27 V+ (power)

## LM4781TA
designator U?
Overture Audio Power Amplifier Series 3 Channel 35W Audio Power Amplifier with Mute; PartNumber: LM4781TA; Manufacturer: National Semiconductor; CompType: Audio IC; PackageTopMarking: NSUZXYTTE#*L4781TA; PowerWise: N; Published: 4-Dec-2008; DatasheetVersion: Aug-2003; PackageVersion: revB, Apr-2003; PackageReference: TA27A; Publisher: Altium Limited; PackageDescription: TO-220, Molded, 1.150 x .618 x .177in Body, 27 Lead, .040in Pitch; RoHS: Y; PinCount: 27; DigiKeyPartNumber: LM4781TA-ND; ComponentLink1Description: LM4781 Datasheet; ComponentLink1URL: http://www.national.com/ds/LM/LM4781.pdf; ComponentLink2Description: LM4781 Web Page; ComponentLink2URL: http://www.national.com/pf/LM/LM4781.html; ComponentLink3Description: TA27A Package Page; ComponentLink3URL: http://www.national.com/packaging/folders/ta27a.html
footprint TA27A (In-Line; 27 Zig-Zag Leads; Body 29.2 x 4.5mm; Pitch 1mm)
pins: 1 V+ (power), 2 V- (power), 3 NC, 4 NC, 5 V+ (power), 6 NC, 7 OUT 1 (out), 8 V- (power), 9 NC, 10 GND (power), 11 MUTE 1 (in), 12 -IN 1 (in), 13 +IN 1 (in), 14 V+ (power), 15 OUT 2 (out), 16 +IN 2 (in), 17 V- (power), 18 NC, 19 GND (power), 20 MUTE 2 (in), 21 -IN 2 (in), 22 NC, 23 OUT 3 (out), 24 GND (power), 25 MUTE 3 (in), 26 -IN 3 (in), 27 +IN 3 (in)

## LM4782TA
designator U?
3 Channel 25W Audio Power Amplifier with Mute and Standby; PartNumber: LM4782TA; Manufacturer: National Semiconductor; CompType: Audio IC; PackageTopMarking: NSUZXYTTE#*LM4782TA; PowerWise: N; Published: 4-Dec-2008; DatasheetVersion: Mar-2006; PackageVersion: revB, Apr-2003; PackageReference: TA27A; Publisher: Altium Limited; PackageDescription: TO-220, Molded, 1.150 x .618 x .177in Body, 27 Lead, .040in Pitch; RoHS: Y; PinCount: 27; DigiKeyPartNumber: LM4782TA-ND; ComponentLink1Description: LM4782 Datasheet; ComponentLink1URL: http://www.national.com/ds/LM/LM4782.pdf; ComponentLink2Description: LM4782 Web Page; ComponentLink2URL: http://www.national.com/pf/LM/LM4782.html; ComponentLink3Description: TA27A Package Page; ComponentLink3URL: http://www.national.com/packaging/folders/ta27a.html
footprint TA27A (In-Line; 27 Zig-Zag Leads; Body 29.2 x 4.5mm; Pitch 1mm)
pins: 1 V+ (power), 2 V- (power), 3 V+ (power), 4 NC, 5 OUT 1 (out), 6 NC, 7 NC, 8 V- (power), 9 GND (power), 10 MUTE 1 (in), 11 -IN 1 (in), 12 +IN 1 (in), 13 STBY 1 (in), 14 V+ (power), 15 OUT 2 (out), 16 STBY 2 (in), 17 +IN 2 (in), 18 V- (power), 19 GND (power), 20 MUTE 2 (in), 21 -IN 2 (in), 22 OUT 3 (out), 23 GND (power), 24 MUTE 3 (in), 25 -IN 3 (in), 26 +IN 3 (in), 27 STBY 3 (in)

## LM4802BLQ
designator U?
Audio Power Amplifier with DC-DC converter to drive Ceramic Speakers; PartNumber: LM4802BLQ; Manufacturer: National Semiconductor; CompType: Audio IC; PackageTopMarking: NS*UZXYTT*4802BLQ; PowerWise: N; Published: 4-Dec-2008; DatasheetVersion: Mar-2005; PackageVersion: revB, Jul-2001; PackageReference: LQA28A; Publisher: Altium Limited; PackageDescription: LLP, Plastic, Quad, 5 x 5 x 0.75mm Body, 28 Lead, 0.5mm Pitch; RoHS: Y; PinCount: 28; DigiKeyPartNumber: LM4802BLQCT-ND; Code_JEDEC: MO-220-WHHD-1; ComponentLink1Description: LM4802B Datasheet; ComponentLink1URL: http://www.national.com/ds/LM/LM4802B.pdf; ComponentLink2Description: LM4802B Web Page; ComponentLink2URL: http://www.national.com/pf/LM/LM4802B.html; ComponentLink3Description: LQA28A Package Page; ComponentLink3URL: http://www.national.com/packaging/folders/lqa28a.html
footprint LQA28A (PQFN, 28-Leads, Body 5x5mm, Pitch 0.5mm, NSC Recommended)
pins: 1 NC, 2 NC, 3 NC, 4 VDD (power), 5 NC, 6 SD 1 (in), 7 GND (power), 8 FB, 9 NC, 10 NC, 11 SW, 12 GND (power), 13 NC, 14 NC, 15 NC, 16 NC, 17 VO2 (out), 18 SD 2 (in), 19 BYPASS, 20 GND (power), 21 IN+ (in), 22 IN- (in), 23 NC, 24 NC, 25 VO1 (out), 26 V1 (power), 27 NC, 28 NC, 29 DAP (power)

## LM4805LQ
designator U?
Low Voltage High Power Audio Power Amplifier; PartNumber: LM4805LQ; Manufacturer: National Semiconductor; CompType: Audio IC; PackageTopMarking: NS*UZXYTT*L4805LQ; PowerWise: N; Published: 4-Dec-2008; DatasheetVersion: Aug-2005; PackageVersion: revB, Jul-2001; PackageReference: LQA28A; Publisher: Altium Limited; PackageDescription: LLP, Plastic, Quad, 5 x 5 x 0.75mm Body, 28 Lead, 0.5mm Pitch; RoHS: Y; PinCount: 28; DigiKeyPartNumber: LM4805LQCT-ND; Code_JEDEC: MO-220-WHHD-1; ComponentLink1Description: LM4805 Datasheet; ComponentLink1URL: http://www.national.com/ds/LM/LM4805.pdf; ComponentLink2Description: LM4805 Web Page; ComponentLink2URL: http://www.national.com/pf/LM/LM4805.html; ComponentLink3Description: LQA28A Package Page; ComponentLink3URL: http://www.national.com/packaging/folders/lqa28a.html
footprint LQA28A (PQFN, 28-Leads, Body 5x5mm, Pitch 0.5mm, NSC Recommended)
pins: 1 NC, 2 NC, 3 NC, 4 VDD (power), 5 NC, 6 SD 1 (in), 7 GND (power), 8 FB, 9 NC, 10 NC, 11 SW, 12 GND (power), 13 NC, 14 NC, 15 NC, 16 NC, 17 VO2 (out), 18 SD 2 (in), 19 BYPASS, 20 GND (power), 21 IN+ (in), 22 IN- (in), 23 NC, 24 NC, 25 VO1 (out), 26 V1 (power), 27 NC, 28 NC, 29 DAP (power)

## LM4808M
designator U?
LM4808 Dual 105 mW Headphone Amplifier; PartNumber: LM4808M; Manufacturer: National Semiconductor; CompType: Audio IC; PackageTopMarking: NSZXTT*LM48*08M; PowerWise: N; Published: 4-Dec-2008; DatasheetVersion: Aug-2001; PackageVersion: revL, Sep-2006; PackageReference: M08A; Publisher: Altium Limited; PackageDescription: SOIC Narrow, 4.9 x 3.9 x 1.45mm, 8 Lead, 1.27mm Pitch; RoHS: Y; PinCount: 8; DigiKeyPartNumber: LM4808M-ND; Code_JEDEC: MS-012-AA; Code_IPC: SOIC127P600-8; ComponentLink1Description: LM4808 Datasheet; ComponentLink1URL: http://www.national.com/ds/LM/LM4808.pdf; ComponentLink2Description: LM4808 Web Page; ComponentLink2URL: http://www.national.com/pf/LM/LM4808.html; ComponentLink3Description: M08A Package Page; ComponentLink3URL: http://www.national.com/packaging/folders/m08a.html
footprint M08A_N (SOIC, 8-Leads, Body 4.9x3.9mm, Pitch 1.27mm, IPC Medium Density)
footprint M08A_L (SOIC, 8-Leads, Body 4.9x3.9mm, Pitch 1.27mm, IPC High Density)
footprint M08A_M (SOIC, 8-Leads, Body 4.9x3.9mm, Pitch 1.27mm, IPC Low Density)
pins: 1 OUT A (out), 2 IN A- (in), 3 IN A+ (in), 4 GND (power), 5 IN B+ (in), 6 IN B- (in), 7 OUT B (out), 8 VDD (power)

## LM4808MM
designator U?
LM4808 Dual 105 mW Headphone Amplifier; PartNumber: LM4808MM; Manufacturer: National Semiconductor; CompType: Audio IC; PackageTopMarking: ZXTT*G08; PowerWise: N; Published: 4-Dec-2008; DatasheetVersion: Aug-2001; PackageVersion: revF, Apr-2008; PackageReference: MUA08A; Publisher: Altium Limited; PackageDescription: MINI SOIC, .118 x .118 x .034in, 8 Lead, .0256in Pitch; RoHS: Y; PinCount: 8; DigiKeyPartNumber: LM4808MMCT-ND; Code_JEDEC: MO-187-AA; ComponentLink1Description: LM4808 Datasheet; ComponentLink1URL: http://www.national.com/ds/LM/LM4808.pdf; ComponentLink2Description: LM4808 Web Page; ComponentLink2URL: http://www.national.com/pf/LM/LM4808.html; ComponentLink3Description: MUA08A Package Page; ComponentLink3URL: http://www.national.com/packaging/folders/mua08a.html
footprint MUA08A_N (TSOP, 8-Leads, Body 3x3mm, Pitch 0.65mm, IPC Medium Density)
footprint MUA08A_L (TSOP, 8-Leads, Body 3x3mm, Pitch 0.65mm, IPC High Density)
footprint MUA08A_M (TSOP, 8-Leads, Body 3x3mm, Pitch 0.65mm, IPC Low Density)
pins: 1 OUT A (out), 2 IN A- (in), 3 IN A+ (in), 4 GND (power), 5 IN B+ (in), 6 IN B- (in), 7 OUT B (out), 8 VDD (power)

## LM4809LD
designator U?
LM4809 Dual 105mW Headphone Amplifier with Active-Low Shutdown Mode; PartNumber: LM4809LD; Manufacturer: National Semiconductor; CompType: Audio IC; PackageTopMarking: XYTT*G09; Published: 4-Dec-2008; DatasheetVersion: Apr-2004; PackageVersion: revB, Jun-2003; PackageReference: LDA08B; Publisher: Altium Limited; PackageDescription: LLP, Plastic, Dual, 2.5 x 2.5 x 0.75mm Body, 8 Lead, 0.5mm Pitch; RoHS: Y; PinCount: 8; DigiKeyPartNumber: LM4809LDCT-ND; Code_JEDEC: MO-229-WDDD-2; ComponentLink1Description: LM4809 Datasheet; ComponentLink1URL: http://www.national.com/ds/LM/LM4809.pdf; ComponentLink2Description: LM4809 Web Page; ComponentLink2URL: http://www.national.com/pf/LM/LM4809.html; ComponentLink3Description: LDA08B Package Page; ComponentLink3URL: http://www.national.com/packaging/folders/lda08b.html
footprint LDA08B (PSON, 8-Leads, Body 2.5x2.5mm, Pitch 0.5mm, NSC Recommended)
pins: 1 VIN1 (in), 2 BYPASS, 3 GND (power), 4 ~{SD} (in), 5 VIN2 (in), 6 VOUT2 (out), 7 VDD (power), 8 VOUT1 (out), 9 DAP (power)

## LM4809LQ
designator U?
LM4809 Dual 105mW Headphone Amplifier with Active-Low Shutdown Mode; PartNumber: LM4809LQ; Manufacturer: National Semiconductor; CompType: Audio IC; PackageTopMarking: XTT*GB3; PowerWise: N; Published: 4-Dec-2008; DatasheetVersion: Apr-2004; PackageVersion: revB, Nov-2002; PackageReference: LQB08A; Publisher: Altium Limited; PackageDescription: LLP, Plastic, Quad, 2 x 2 x 0.75mm Body, 8 Lead, 0.65mm Pitch; RoHS: Y; PinCount: 8; DigiKeyPartNumber: LM4809LQCT-ND; ComponentLink1Description: LM4809 Datasheet; ComponentLink1URL: http://www.national.com/ds/LM/LM4809.pdf; ComponentLink2Description: LM4809 Web Page; ComponentLink2URL: http://www.national.com/pf/LM/LM4809.html; ComponentLink3Description: LQB08A Package Page; ComponentLink3URL: http://www.national.com/packaging/folders/lqb08a.html
footprint LQB08A (PQFN, 8-Leads, Body 2x2mm, Pitch 0.65mm, NSC Recommended)
pins: 1 VOUT1 (out), 2 VIN1 (in), 3 BYPASS, 4 GND (power), 5 ~{SD} (in), 6 VIN2 (in), 7 VOUT2 (out), 8 VDD (power), 9 DAP (power)

## LM4809MM
designator U?
LM4809 Dual 105mW Headphone Amplifier with Active-Low Shutdown Mode; PartNumber: LM4809MM; Manufacturer: National Semiconductor; CompType: Audio IC; PackageTopMarking: ZXTT*G09; PowerWise: N; Published: 4-Dec-2008; DatasheetVersion: Apr-2004; PackageVersion: revF, Apr-2008; PackageReference: MUA08A; Publisher: Altium Limited; PackageDescription: MINI SOIC, .118 x .118 x .034in, 8 Lead, .0256in Pitch; RoHS: Y; PinCount: 8; DigiKeyPartNumber: LM4809MMCT-ND; Code_JEDEC: MO-187-AA; ComponentLink1Description: LM4809 Datasheet; ComponentLink1URL: http://www.national.com/ds/LM/LM4809.pdf; ComponentLink2Description: LM4809 Web Page; ComponentLink2URL: http://www.national.com/pf/LM/LM4809.html; ComponentLink3Description: MUA08A Package Page; ComponentLink3URL: http://www.national.com/packaging/folders/mua08a.html
footprint MUA08A_N (TSOP, 8-Leads, Body 3x3mm, Pitch 0.65mm, IPC Medium Density)
footprint MUA08A_L (TSOP, 8-Leads, Body 3x3mm, Pitch 0.65mm, IPC High Density)
footprint MUA08A_M (TSOP, 8-Leads, Body 3x3mm, Pitch 0.65mm, IPC Low Density)
pins: 1 VOUT1 (out), 2 VIN1 (in), 3 BYPASS, 4 GND (power), 5 ~{SD} (in), 6 VIN2 (in), 7 VOUT2 (out), 8 VDD (power)

## LM4810MM
designator U?
LM4810 Dual 105mW Headphone Amplifier with Active-High Shutdown Mode; PartNumber: LM4810MM; Manufacturer: National Semiconductor; CompType: Audio IC; PackageTopMarking: ZXTT*G10; PowerWise: N; Published: 4-Dec-2008; DatasheetVersion: Nov-2002; PackageVersion: revF, Apr-2008; PackageReference: MUA08A; Publisher: Altium Limited; PackageDescription: MINI SOIC, .118 x .118 x .034in, 8 Lead, .0256in Pitch; RoHS: Y; PinCount: 8; DigiKeyPartNumber: LM4810MMCT-ND; Code_JEDEC: MO-187-AA; ComponentLink1Description: LM4810 Datasheet; ComponentLink1URL: http://www.national.com/ds/LM/LM4810.pdf; ComponentLink2Description: LM4810 Web Page; ComponentLink2URL: http://www.national.com/pf/LM/LM4810.html; ComponentLink3Description: MUA08A Package Page; ComponentLink3URL: http://www.national.com/packaging/folders/mua08a.html
footprint MUA08A_N (TSOP, 8-Leads, Body 3x3mm, Pitch 0.65mm, IPC Medium Density)
footprint MUA08A_L (TSOP, 8-Leads, Body 3x3mm, Pitch 0.65mm, IPC High Density)
footprint MUA08A_M (TSOP, 8-Leads, Body 3x3mm, Pitch 0.65mm, IPC Low Density)
pins: 1 VOUT1 (out), 2 VIN1 (in), 3 BYPASS, 4 GND (power), 5 SD (in), 6 VIN2 (in), 7 VOUT2 (out), 8 VDD (power)

## LM4811LD
designator U?
LM4811 Dual 105mW Headphone Amplifier with Digital Volume Control and Shutdown Mode; PartNumber: LM4811LD; Manufacturer: National Semiconductor; CompType: Audio IC; PackageTopMarking: ZXYTT*G11; PowerWise: N; Published: 4-Dec-2008; DatasheetVersion: Apr-2006; PackageVersion: revB, Jan-2003; PackageReference: LDA10A; Publisher: Altium Limited; PackageDescription: LLP, Plastic, Dual, 3 x 3 x 0.75mm Body, 10 Lead, 0.5mm Pitch; RoHS: Y; PinCount: 10; DigiKeyPartNumber: LM4811LDCT-ND; ComponentLink1Description: LM4811 Datasheet; ComponentLink1URL: http://www.national.com/ds/LM/LM4811.pdf; ComponentLink2Description: LM4811 Web Page; ComponentLink2URL: http://www.national.com/pf/LM/LM4811.html; ComponentLink3Description: LDA10A Package Page; ComponentLink3URL: http://www.national.com/packaging/folders/lda10a.html
footprint LDA10A (PSON, 10-Leads, Body 3x3mm, Pitch 0.5mm, NSC Recommended)
pins: 1 VOUT1 (out), 2 VIN1 (in), 3 BYPASS, 4 CLOCK (in), 5 GND (power), 6 UP/DN (in), 7 SD (in), 8 VIN2 (in), 9 VOUT2 (out), 10 VDD (power), 11 DAP (power)

## LM4811MM
designator U?
LM4811 Dual 105mW Headphone Amplifier with Digital Volume Control and Shutdown Mode; PartNumber: LM4811MM; Manufacturer: National Semiconductor; CompType: Audio IC; PackageTopMarking: ZXTT*G11; PowerWise: N; Published: 4-Dec-2008; DatasheetVersion: Apr-2006; PackageVersion: revB, Jul-2003; PackageReference: MUB10A; Publisher: Altium Limited; PackageDescription: Mini-SO, Molded, .118 x .118 x .034in Body, 10 Lead, .0197in Pitch; RoHS: Y; PinCount: 10; DigiKeyPartNumber: LM4811MMCT-ND; Code_JEDEC: MO-187-BA; ComponentLink1Description: LM4811 Datasheet; ComponentLink1URL: http://www.national.com/ds/LM/LM4811.pdf; ComponentLink2Description: LM4811 Web Page; ComponentLink2URL: http://www.national.com/pf/LM/LM4811.html; ComponentLink3Description: MUB10A Package Page; ComponentLink3URL: http://www.national.com/packaging/folders/mub10a.html
footprint MUB10A_N (TSSOP, 10-Leads, Body 3x3mm, Pitch 0.5mm, IPC Medium Density)
footprint MUB10A_L (TSSOP, 10-Leads, Body 3x3mm, Pitch 0.5mm, IPC High Density)
footprint MUB10A_M (TSSOP, 10-Leads, Body 3x3mm, Pitch 0.5mm, IPC Low Density)
pins: 1 VOUT1 (out), 2 VIN1 (in), 3 BYPASS, 4 CLOCK (in), 5 GND (power), 6 UP/DN (in), 7 SD (in), 8 VIN2 (in), 9 VOUT2 (out), 10 VDD (power)

## LM4818M
designator U?
350mW Audio Power Amplifier with Shutdown Mode; PartNumber: LM4818M; Manufacturer: National Semiconductor; CompType: Audio IC; PackageTopMarking: NSZXTT*LM48*18M; Published: 4-Dec-2008; DatasheetVersion: Apr-2002; PackageVersion: revL, Sep-2006; PackageReference: M08A; Publisher: Altium Limited; PackageDescription: SOIC Narrow, 4.9 x 3.9 x 1.45mm, 8 Lead, 1.27mm Pitch; RoHS: Y; PinCount: 8; DigiKeyPartNumber: LM4818M-ND; Code_JEDEC: MS-012-AA; Code_IPC: SOIC127P600-8; ComponentLink1Description: LM4818 Datasheet; ComponentLink1URL: http://www.national.com/ds/LM/LM4818.pdf; ComponentLink2Description: LM4818 Web Page; ComponentLink2URL: http://www.national.com/pf/LM/LM4818.html; ComponentLink3Description: M08A Package Page; ComponentLink3URL: http://www.national.com/packaging/folders/m08a.html
footprint M08A_N (SOIC, 8-Leads, Body 4.9x3.9mm, Pitch 1.27mm, IPC Medium Density)
footprint M08A_L (SOIC, 8-Leads, Body 4.9x3.9mm, Pitch 1.27mm, IPC High Density)
footprint M08A_M (SOIC, 8-Leads, Body 4.9x3.9mm, Pitch 1.27mm, IPC Low Density)
pins: 1 SD (in), 2 BYPASS, 3 +IN (in), 4 -IN (in), 5 VO1 (out), 6 VDD (power), 7 GND (power), 8 VO2 (out)

## LM4819LD
designator U?
350mW Audio Power Amplifier with Shutdown Mode; PartNumber: LM4819LD; Manufacturer: National Semiconductor; CompType: Audio IC; PackageTopMarking: XYTT*G19; PowerWise: N; Published: 4-Dec-2008; DatasheetVersion: Apr-2002; PackageVersion: revB, Jun-2003; PackageReference: LDA08B; Publisher: Altium Limited; PackageDescription: LLP, Plastic, Dual, 2.5 x 2.5 x 0.75mm Body, 8 Lead, 0.5mm Pitch; RoHS: Y; PinCount: 8; DigiKeyPartNumber: LM4819LD-ND; Code_JEDEC: MO-229-WDDD-2; ComponentLink1Description: LM4819 Datasheet; ComponentLink1URL: http://www.national.com/ds/LM/LM4819.pdf; ComponentLink2Description: LM4819 Web Page; ComponentLink2URL: http://www.national.com/pf/LM/LM4819.html; ComponentLink3Description: LDA08B Package Page; ComponentLink3URL: http://www.national.com/packaging/folders/lda08b.html
footprint LDA08B (PSON, 8-Leads, Body 2.5x2.5mm, Pitch 0.5mm, NSC Recommended)
pins: 1 SD (in), 2 BYPASS, 3 +IN (in), 4 -IN (in), 5 VO1 (out), 6 VDD (power), 7 GND (power), 8 VO2 (out), 9 DAP (power)

## LM4819M
designator U?
350mW Audio Power Amplifier with Shutdown Mode; PartNumber: LM4819M; Manufacturer: National Semiconductor; CompType: Audio IC; PackageTopMarking: NSZXTT*LM48*19M; Published: 4-Dec-2008; DatasheetVersion: Apr-2002; PackageVersion: revL, Sep-2006; PackageReference: M08A; Publisher: Altium Limited; PackageDescription: SOIC Narrow, 4.9 x 3.9 x 1.45mm, 8 Lead, 1.27mm Pitch; RoHS: Y; PinCount: 8; DigiKeyPartNumber: LM4819M-ND; Code_JEDEC: MS-012-AA; Code_IPC: SOIC127P600-8; ComponentLink1Description: LM4819 Datasheet; ComponentLink1URL: http://www.national.com/ds/LM/LM4819.pdf; ComponentLink2Description: LM4819 Web Page; ComponentLink2URL: http://www.national.com/pf/LM/LM4819.html; ComponentLink3Description: M08A Package Page; ComponentLink3URL: http://www.national.com/packaging/folders/m08a.html
footprint M08A_N (SOIC, 8-Leads, Body 4.9x3.9mm, Pitch 1.27mm, IPC Medium Density)
footprint M08A_L (SOIC, 8-Leads, Body 4.9x3.9mm, Pitch 1.27mm, IPC High Density)
footprint M08A_M (SOIC, 8-Leads, Body 4.9x3.9mm, Pitch 1.27mm, IPC Low Density)
pins: 1 SD (in), 2 BYPASS, 3 +IN (in), 4 -IN (in), 5 VO1 (out), 6 VDD (power), 7 GND (power), 8 VO2 (out)

## LM4819MM
designator U?
350mW Audio Power Amplifier with Shutdown Mode; PartNumber: LM4819MM; Manufacturer: National Semiconductor; CompType: Audio IC; PackageTopMarking: ZXTT*G19; PowerWise: N; Published: 4-Dec-2008; DatasheetVersion: Apr-2002; PackageVersion: revF, Apr-2008; PackageReference: MUA08A; Publisher: Altium Limited; PackageDescription: MINI SOIC, .118 x .118 x .034in, 8 Lead, .0256in Pitch; RoHS: Y; PinCount: 8; DigiKeyPartNumber: LM4819MM-ND; Code_JEDEC: MO-187-AA; ComponentLink1Description: LM4819 Datasheet; ComponentLink1URL: http://www.national.com/ds/LM/LM4819.pdf; ComponentLink2Description: LM4819 Web Page; ComponentLink2URL: http://www.national.com/pf/LM/LM4819.html; ComponentLink3Description: MUA08A Package Page; ComponentLink3URL: http://www.national.com/packaging/folders/mua08a.html
footprint MUA08A_N (TSOP, 8-Leads, Body 3x3mm, Pitch 0.65mm, IPC Medium Density)
footprint MUA08A_L (TSOP, 8-Leads, Body 3x3mm, Pitch 0.65mm, IPC High Density)
footprint MUA08A_M (TSOP, 8-Leads, Body 3x3mm, Pitch 0.65mm, IPC Low Density)
pins: 1 SD (in), 2 BYPASS, 3 +IN (in), 4 -IN (in), 5 VO1 (out), 6 VDD (power), 7 GND (power), 8 VO2 (out)

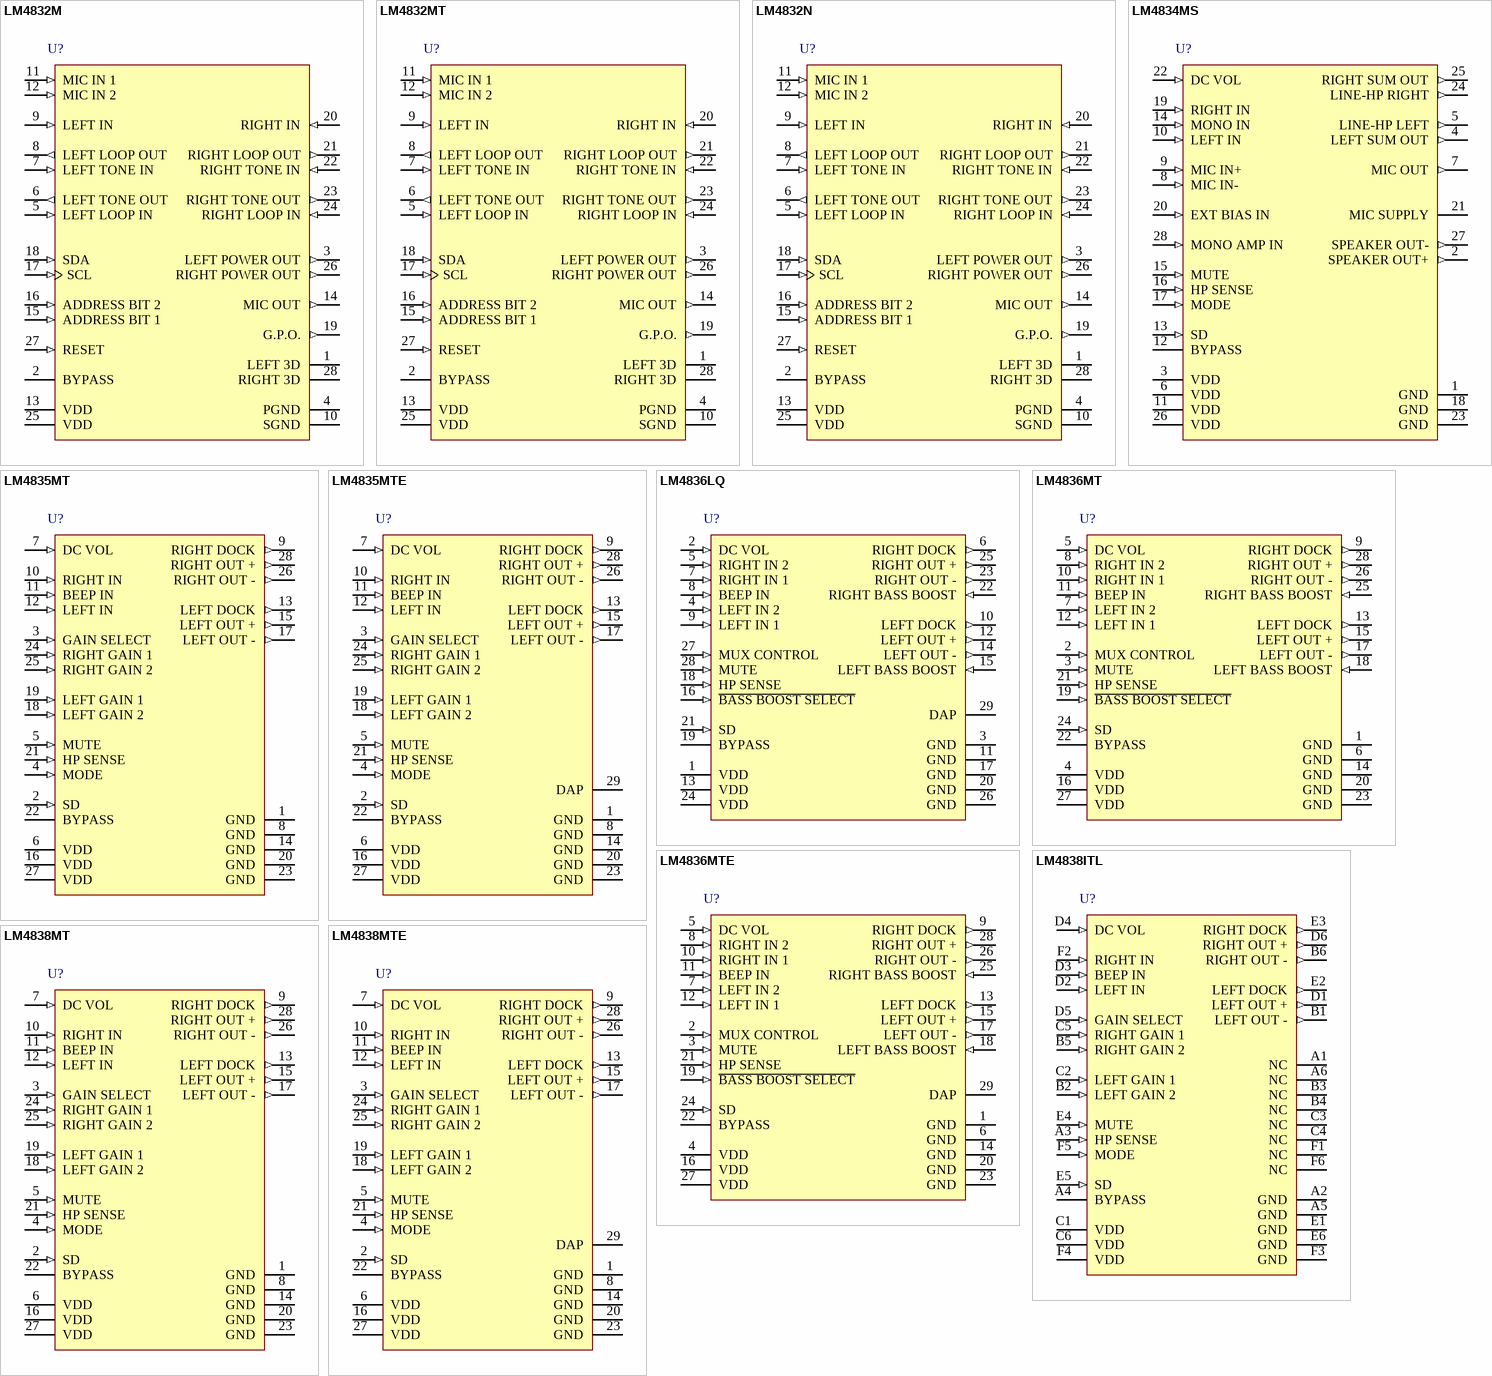
[diagram p3: symbols LM4832M to LM4838MTE]